# Altium schematic symbol library SCH - MCU - NUVOTON - NUVOTON MINI55LDE.SchLib: 1 symbol
Pins are listed as number, name and electrical type; pins without a type are passive.

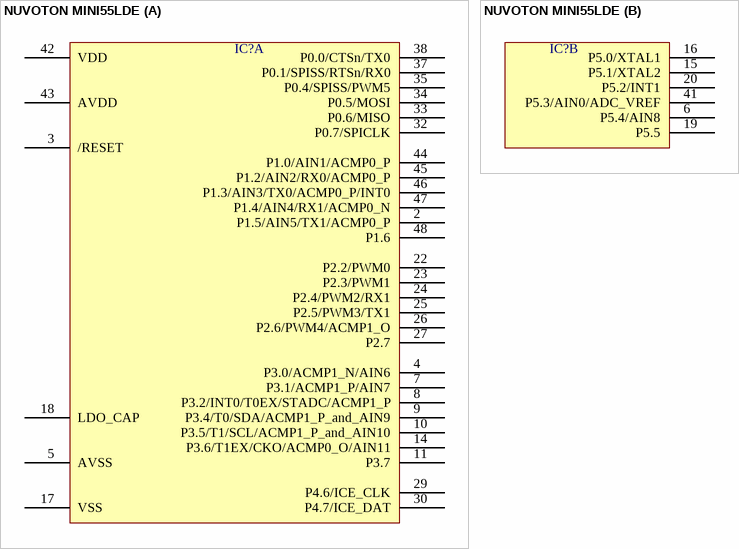
[diagram p0: symbol NUVOTON MINI55LDE]

## NUVOTON MINI55LDE
designator IC?  (value not drawn)
part A pins: 2 P1.5/AIN5/TX1/ACMP0_P, 3 /RESET, 4 P3.0/ACMP1_N/AIN6, 5 AVSS, 7 P3.1/ACMP1_P/AIN7, 8 P3.2/INT0/T0EX/STADC/ACMP1_P, 9 P3.4/T0/SDA/ACMP1_P_and_AIN9, 10 P3.5/T1/SCL/ACMP1_P_and_AIN10, 11 P3.7, 14 P3.6/T1EX/CKO/ACMP0_O/AIN11, 17 VSS, 18 LDO_CAP, 22 P2.2/PWM0, 23 P2.3/PWM1, 24 P2.4/PWM2/RX1, 25 P2.5/PWM3/TX1, 26 P2.6/PWM4/ACMP1_O, 27 P2.7, 29 P4.6/ICE_CLK, 30 P4.7/ICE_DAT, 32 P0.7/SPICLK, 33 P0.6/MISO, 34 P0.5/MOSI, 35 P0.4/SPISS/PWM5, 37 P0.1/SPISS/RTSn/RX0, 38 P0.0/CTSn/TX0, 42 VDD, 43 AVDD, 44 P1.0/AIN1/ACMP0_P, 45 P1.2/AIN2/RX0/ACMP0_P, 46 P1.3/AIN3/TX0/ACMP0_P/INT0, 47 P1.4/AIN4/RX1/ACMP0_N, 48 P1.6
part B pins: 6 P5.4/AIN8, 15 P5.1/XTAL2, 16 P5.0/XTAL1, 19 P5.5, 20 P5.2/INT1, 41 P5.3/AIN0/ADC_VREF